# EAGLE library part LM4875 (library RetroESP32)
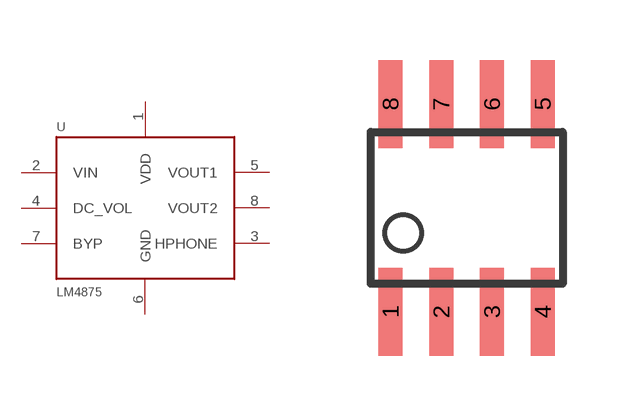
[diagram p5: symbol with the pads of SOIC8; footprint SOIC8]

Designator prefix U

## LM4875  [SOIC8]
1  VDD  pwr
2  VIN  in
3  HPHONE  in
4  DC_VOL  in
5  VOUT1  out
6  GND  pwr
7  BYP
8  VOUT2  out

## Footprint SOIC8 (pad centres in mm)
smd 0.6 x 2.2: 1 -1.905,-2.6; 2 -0.635,-2.6; 3 0.635,-2.6; 4 1.905,-2.6; 5 1.905,2.6; 6 0.635,2.6; 7 -0.635,2.6; 8 -1.905,2.6